# EAGLE library part DB09 (library jack_connector)
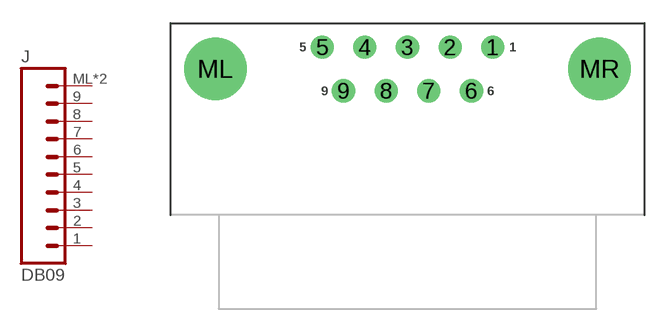
[diagram p22: symbol with the pads of AE10921; footprint AE10921]

Designator prefix J

## DB09_RA  [AE10921]
1  1  pas
2  2  pas
3  3  pas
4  4  pas
5  5  pas
6  6  pas
7  7  pas
8  8  pas
9  9  pas
ML  10  pas
MR  10  pas

## Footprint AE10921 (pad centres in mm)
Drawing for DB9 Right angle (Assmann A-Dx 09 A/KG-T2S) digikey <https://www.digikey.com/product-detail/en/assmann-wsw-components/A-DF-09-A-KG-T2S/AE10921-ND/1241800> drawings <http://www.assmann-wsw.com/fileadmin/datasheets/ASS_4888_CO.pdf> see page 73
drill 1: 1 5.54,1.42; 2 2.77,1.42; 3 0,1.42; 4 -2.77,1.42; 5 -5.54,1.42; 6 4.155,-1.42; 7 1.385,-1.42; 8 -1.385,-1.42; 9 -4.155,-1.42
drill 3.05: ML -12.495,0; MR 12.495,0